# Altium footprint library Cap 100uf 6.PCBLIB: 3 footprints
Each footprint in its own frame and in the unit in brackets; x right, y up, seen from the top. Pads: shape width x height; smd on the part's side, far side on the other; paste and mask are expansions set on the pad; w line width, h text height; cw(c..) or ccw(c..) is an arc to the next point about the centre after c.
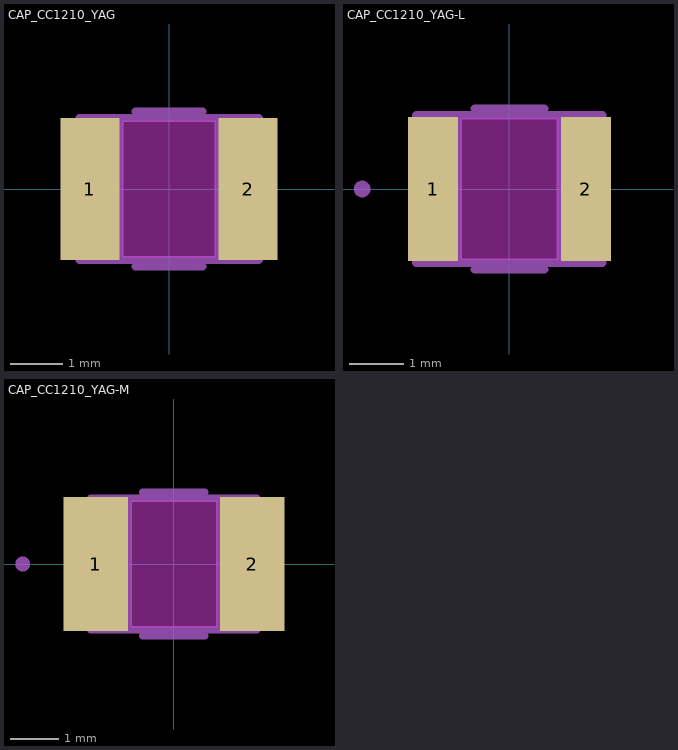
[diagram p0: the footprints below, top view; thin cyan lines are the x and y axes]

## CAP_CC1210_YAG [mil]
pads (2):
  rect 44x106 smd: 1(-59,0) 2(59,0)
Top keep-out:
  region: -35,51 35,51 35,-51 -35,-51
tDocu:
  lines w6: -67,-53 -67,53 ; -67,-53 -37,-53 -37,53 -67,53 ; -67,-53 67,-53 ; -67,-53 -67,53 ; -67,53 67,53 ; 67,-53 37,-53 37,53 67,53 ; 67,-53 67,53 ; 67,-53 67,53
tPlace:
  lines w6: -25,-58 25,-58 ; -25,58 25,58

## CAP_CC1210_YAG-L [mil]
pads (2):
  rect 36x104 smd: 1(-55,0) 2(55,0)
Top keep-out:
  region: -35,51 35,51 35,-51 -35,-51
tDocu:
  lines w0: -53,0 ccw(c-50,0) -47,0 ccw(c-50,0) -53,0
  lines w6: -67,-53 -67,53 ; -67,-53 -37,-53 -37,53 -67,53 ; -67,-53 67,-53 ; -67,-53 -67,53 ; -67,53 67,53 ; 67,-53 37,-53 37,53 67,53 ; 67,-53 67,53 ; 67,-53 67,53
tPlace:
  lines w6: -25,-58 25,-58 ; -25,58 25,58 ; -109,0 ccw(c-106,0) -103,0 ccw(c-106,0) -109,0

## CAP_CC1210_YAG-M [mil]
pads (2):
  rect 52x108 smd: 1(-63,0) 2(63,0)
Top keep-out:
  region: -35,51 35,51 35,-51 -35,-51
tDocu:
  lines w0: -61,0 ccw(c-58,0) -55,0 ccw(c-58,0) -61,0
  lines w6: -67,-53 -67,53 ; -67,-53 -37,-53 -37,53 -67,53 ; -67,-53 67,-53 ; -67,-53 -67,53 ; -67,53 67,53 ; 67,-53 37,-53 37,53 67,53 ; 67,-53 67,53 ; 67,-53 67,53
tPlace:
  lines w6: -25,-58 25,-58 ; -25,58 25,58 ; -125,0 ccw(c-122,0) -119,0 ccw(c-122,0) -125,0